# Altium footprint library Capacitor.PcbLib: 17 footprints (part 2 of 2)
Each footprint in its own frame and in the unit in brackets; x right, y up, seen from the top. Pads: shape width x height; smd on the part's side, far side on the other; paste and mask are expansions set on the pad; w line width, h text height; cw(c..) or ccw(c..) is an arc to the next point about the centre after c.
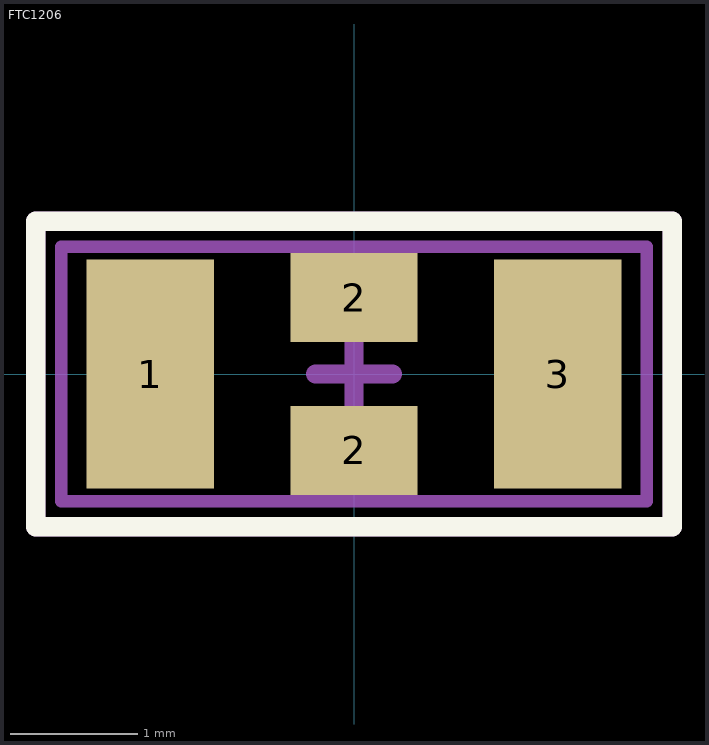
[diagram p1: the footprint, top view; thin cyan lines are the x and y axes]

## FTC1206 [mm]
pads (4):
  rect 1x1.8 smd: 1(-1.6,0) 3(1.6,0)
  rect 1x0.7 smd: 2(0,-0.6) 2(0,0.6)
Top Overlay:
  lines w0.153: -2.5,-1.2 -2.5,1.2 2.5,1.2 2.5,-1.2 -2.5,-1.2
Top Assembly:
  lines w0.1: -2.3,-1 -2.3,1 2.3,1 2.3,-1 -2.3,-1
  text "'.Designator'" at -4.532,-0.333 h0.8
Top Courtyard:
  lines w0.153: -0.3,0 0.3,0 ; 0,-0.3 0,0.3 ; -2.5,-1.2 -2.5,1.2 2.5,1.2 2.5,-1.2 -2.5,-1.2
3D body "NFM3DPC223R1H3L--3DModel-STEP-46669.STEP": height 0.9, standoff 0, extent -1.6,-0.625 1.6,0.625